# EAGLE library part HTST-110-01-XX-DV (library HTST-110-01-XX-DV)
HIGH TEMP TOP SHROUD.
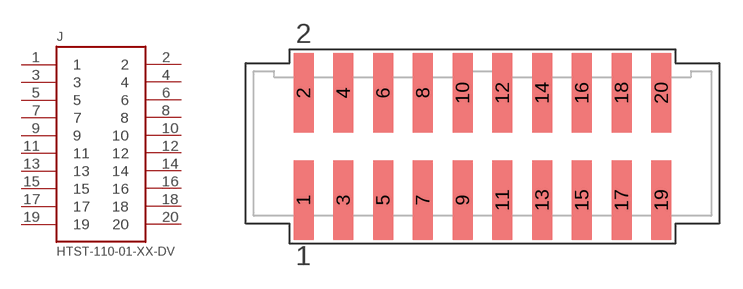
[diagram p0: symbol with the pads of HTST-110-01-XX-DV; footprint HTST-110-01-XX-DV]

Designator prefix J

## HTST-110-01-XX-DV  [HTST-110-01-XX-DV]
1  1
2  2
3  3
4  4
5  5
6  6
7  7
8  8
9  9
10  10
11  11
12  12
13  13
14  14
15  15
16  16
17  17
18  18
19  19
20  20

## Footprint HTST-110-01-XX-DV (pad centres in mm)
HIGH TEMP TOP SHROUD.
smd 1.27 x 5.08: 1 -11.43,-3.429; 2 -11.43,3.429; 3 -8.89,-3.429; 4 -8.89,3.429; 5 -6.35,-3.429; 6 -6.35,3.429; 7 -3.81,-3.429; 8 -3.81,3.429; 9 -1.27,-3.429; 10 -1.27,3.429; 11 1.27,-3.429; 12 1.27,3.429; 13 3.81,-3.429; 14 3.81,3.429; 15 6.35,-3.429; 16 6.35,3.429; 17 8.89,-3.429; 18 8.89,3.429; 19 11.43,-3.429; 20 11.43,3.429